# EAGLE library part SAT3M3232042TR (library SAT3M3232042TR)
SATA Connectors, Storage & Server System, Plug, Surface Mount, 7 Positions. Source: Datasheet <https://cdn.amphenol-cs.com/media/wysiwyg/files/drawing/sat3m323203xxx.pdf>
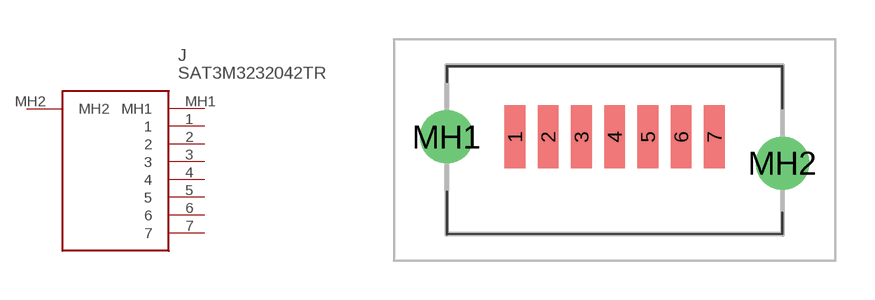
[diagram p0: symbol with the pads of SAT3M3232042TR; footprint SAT3M3232042TR]

Designator prefix J

## SAT3M3232042TR (Arrow_Part_Number: SAT3M3232042TR; Arrow_Price-Stock: https://www.arrow.com/en/products/sat3m3232042tr/amphenol-fci?utm_currency=USD&region=europe; Description: SATA Connectors, Storage & Server System, Plug, Surface Mount, 7 Positions.; Height: 8.55mm; Manufacturer_Name: Amphenol Communications Solutions; Manufacturer_Part_Number: SAT3M3232042TR; Mouser_Part_Number: 523-SAT3M3232042TR; Mouser_Price-Stock: https://www.mouser.co.uk/ProductDetail/Amphenol-FCI/SAT3M3232042TR?qs=vLWxofP3U2zYTvrDpHb8Yw%3D%3D)  [SAT3M3232042TR]
1  1
2  2
3  3
4  4
5  5
6  6
7  7
MH1  MH1
MH2  MH2

## Footprint SAT3M3232042TR (pad centres in mm)
SAT3M3232042TR-1
smd 0.8 x 2.4: 1 -3.81,0.5; 2 -2.54,0.5; 3 -1.27,0.5; 4 0,0.5; 5 1.27,0.5; 6 2.54,0.5; 7 3.81,0.5
drill 1.35 pad 2.025: MH1 -6.415,0.5; MH2 6.415,-0.5